# EAGLE library part RA4 (library Passive_bak)
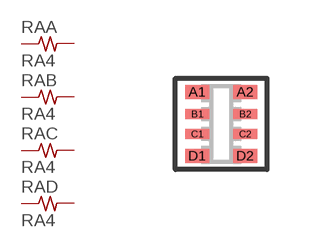
[diagram p0: symbol with the pads of 1005-A4; footprint 1005-A4]

Designator prefix RA; gates A=RESISTOR B=RESISTOR C=RESISTOR D=RESISTOR

## RA4  [1005-A4]
A1  A:1  pas
A2  A:2  pas
B1  B:1  pas
B2  B:2  pas
C1  C:1  pas
C2  C:2  pas
D1  D:1  pas
D2  D:2  pas

## Footprint 1005-A4 (pad centres in mm)
smd 0.6 x 0.35: A1 -0.6,0.8; A2 0.6,0.8; D1 -0.6,-0.8; D2 0.6,-0.8
smd 0.6 x 0.25: B1 -0.6,0.25; B2 0.6,0.25; C1 -0.6,-0.25; C2 0.6,-0.25